# Altium integrated library DIP-GAS-MQ-2_6P-D19MM_.IntLib: 1 symbol
Pins are listed as number, name and electrical type; pins without a type are passive.

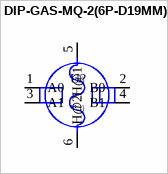
[diagram p0: symbol DIP-GAS-MQ-2(6P-D19MM)]

## DIP-GAS-MQ-2(6P-D19MM)
designator U?
D-Sub MIL Spec Connectors Microminiature Series .050; MP: MQ-2; MF: AirBorn; Availability: In Stock; Purchase-URL: https://pricing.snapeda.com/search/part/MQ-2/?ref=eda; Package: None; SnapEDA_Link: https://www.snapeda.com/parts/MQ-2/AirBorn/view-part/?ref=snap; Check_prices: https://www.snapeda.com/parts/MQ-2/AirBorn/view-part/?ref=eda; Price: None; Value: *
footprint SNR6-D19.0MM
pins: 1 A0 (io), 2 B0 (io), 3 A1 (io), 4 B1 (io), 5 H@1 (io), 6 H@2 (io)